# Altium footprint library ON Semi.PcbLib: 4 footprints
Each footprint in its own frame and in the unit in brackets; x right, y up, seen from the top. Pads: shape width x height; smd on the part's side, far side on the other; paste and mask are expansions set on the pad; w line width, h text height; cw(c..) or ccw(c..) is an arc to the next point about the centre after c.
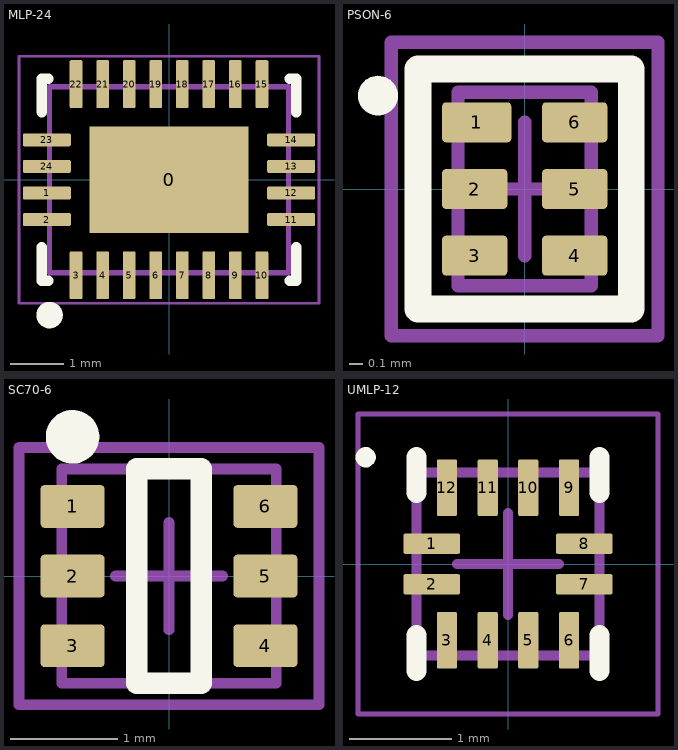
[diagram p0: the footprints below, top view; thin cyan lines are the x and y axes]

## MLP-24 [mm] "QFN, 24-Leads, Body 3.50x4.50mm, Pitch 0.50mm, Thermal Pad 2.10x3.10mm, IPC Medium Density"
height 0.8
pads (25):
  rect 3x2 smd: 0(0,0)
  rrect20% 0.9x0.24 smd: 1(-2.3,-0.25) 2(-2.3,-0.75) 11(2.3,-0.75) 12(2.3,-0.25) 13(2.3,0.25) 14(2.3,0.75) 23(-2.3,0.75) 24(-2.3,0.25)
  rrect20% 0.24x0.9 smd: 3(-1.75,-1.8) 4(-1.25,-1.8) 5(-0.75,-1.8) 6(-0.25,-1.8) 7(0.25,-1.8) 8(0.75,-1.8) 9(1.25,-1.8) 10(1.75,-1.8) 15(1.75,1.8) 16(1.25,1.8) 17(0.75,1.8) 18(0.25,1.8) 19(-0.25,1.8) 20(-0.75,1.8) 21(-1.25,1.8) 22(-1.75,1.8)
Top Overlay:
  circle w0.25: c-2.25,-2.55 r0.125
  lines w0.2: -2.4,-1.275 -2.4,-1.9 -2.275,-1.9 ; -2.4,1.275 -2.4,1.9 -2.275,1.9 ; 2.275,-1.9 2.4,-1.9 2.4,-1.275 ; 2.275,1.9 2.4,1.9 2.4,1.275
Mechanical 13:
  lines w0.1: -2.25,-1.75 2.25,-1.75 2.25,1.75 -2.25,1.75 -2.25,-1.75
Mechanical 15:
  lines w0.05: -2.825,-2.325 2.825,-2.325 2.825,2.325 -2.825,2.325 -2.825,-2.325
  lines w0.1: -0.5,0 0.5,0 ; 0,-0.5 0,0.5
3D body "ON_Semi_MLP-24.STEP": height 0.8, standoff 0, extent -2.25,-1.75 2.25,1.75

## PSON-6 [mm]
pads (7):
  rrect20% 0.52x0.3 smd: 1(-0.36,0.5)
  rrect20% 0.49x0.3 smd: 2(-0.375,0) 3(-0.375,-0.5) 4(0.375,-0.5) 5(0.375,0) 6(0.375,0.5)
  round 0.3 on Top Overlay: ""(-1.1,0.7)
Top Overlay:
  lines w0.2: -0.8,-0.9 0.8,-0.9 0.8,0.9 -0.8,0.9 -0.8,-0.9
Mechanical 1:
  lines w0.1: -0.5,-0.725 -0.5,0.725 0.5,0.725 0.5,-0.725 -0.5,-0.725
Mechanical 15:
  lines w0.1: -0.5,0 0.5,0 ; 0,-0.5 0,0.5 ; -1,-1.1 1,-1.1 1,1.1 -1,1.1 -1,-1.1
3D body "ON_Semi_PSON6.STEP": height 0.5, standoff 0, extent -0.5,-0.725 0.5,0.725

## SC70-6 [mm]
pads (6):
  rrect20% 0.6x0.4 smd: 1(-0.9,0.65) 2(-0.9,0) 3(-0.9,-0.65) 4(0.9,-0.65) 5(0.9,0) 6(0.9,0.65)
Top Overlay:
  circle w0.25: c-0.9,1.3 r0.125
  lines w0.2: -0.3,-1 0.3,-1 0.3,1 -0.3,1 -0.3,-1
Mechanical 1:
  lines w0.1: -1,-1 1,-1 1,1 -1,1 -1,-1
Mechanical 15:
  lines w0.1: -0.5,0 0.5,0 ; 0,-0.5 0,0.5 ; -1.4,-1.2 1.4,-1.2 1.4,1.2 -1.4,1.2 -1.4,-1.2
3D body "SOT-363_SC-70-6.step": height 1.05, standoff 0, extent -1,-1 1,1

## UMLP-12 [mm] "QFN, 12-Leads, Body 1.80x1.80mm, Pitch 0.40mm, IPC Medium Density"
height 0.55
pads (12):
  rrect20% 0.56x0.2 smd: 1(-0.75,0.2) 2(-0.75,-0.2) 7(0.75,-0.2) 8(0.75,0.2)
  rrect20% 0.2x0.56 smd: 3(-0.6,-0.75) 4(-0.2,-0.75) 5(0.2,-0.75) 6(0.6,-0.75) 9(0.6,0.75) 10(0.2,0.75) 11(-0.2,0.75) 12(-0.6,0.75)
Top Overlay:
  circle w0.1: c-1.4,1.05 r0.05
  lines w0.2: -0.9,-1.05 -0.9,-0.7 ; -0.9,0.7 -0.9,1.05 ; 0.9,-1.05 0.9,-0.7 ; 0.9,0.7 0.9,1.05
Mechanical 13:
  lines w0.1: -0.9,-0.9 -0.9,0.9 0.9,0.9 0.9,-0.9 -0.9,-0.9
Mechanical 15:
  lines w0.05: -1.475,-1.475 -1.475,1.475 1.475,1.475 1.475,-1.475 -1.475,-1.475
  lines w0.1: -0.5,0 0.5,0 ; 0,-0.5 0,0.5
3D body "OnSemi_UMLP-12.STEP": height 0.55, standoff 0, extent -0.9,-0.9 0.9,0.9